# Altium footprint library Pcb_DCDC.PcbLib: 2 footprints
Each footprint in its own frame and in the unit in brackets; x right, y up, seen from the top. Pads: shape width x height; smd on the part's side, far side on the other; paste and mask are expansions set on the pad; w line width, h text height; cw(c..) or ccw(c..) is an arc to the next point about the centre after c.
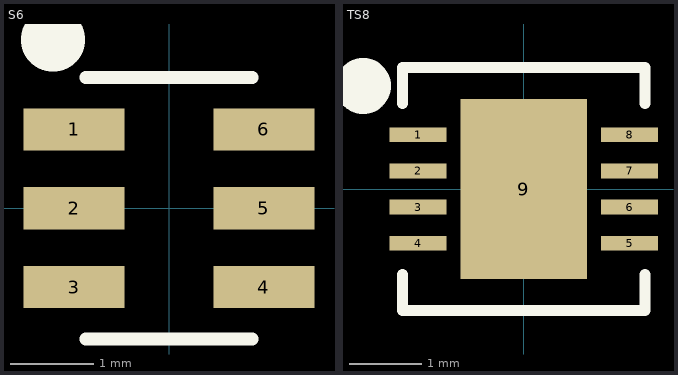
[diagram p0: the footprints below, top view; thin cyan lines are the x and y axes]

## S6 [mil]
pads (6):
  rect 48x20 smd paste+0 mask+0: 1(-45,37.4) 2(-45,0) 3(-45,-37.4) 4(45,-37.4) 5(45,0) 6(45,37.4)
Top Overlay:
  circle w30: c-55,80 r0.25
  lines w6: -39.5,-62 39.5,-62 ; -39.5,62 39.5,62

## TS8 [mil]
pads (9):
  rect 31x8 smd paste+0 mask+0: 1(-57.5,29.53) 2(-57.5,9.84) 3(-57.5,-9.84) 4(-57.5,-29.53) 5(57.5,-29.53) 6(57.5,-9.84) 7(57.5,9.84) 8(57.5,29.53)
  rect 69x98 smd paste-48.5 mask+0: 9(0,0)
Top Overlay:
  lines w6: -66,-46.63 -66,-66 66,-66 66,-46.63 ; -66,46.63 -66,66 66,66 66,46.63
  lines w25: -85,55 cw(c-87.5,56.04) -84.82,55.67
Top Paste:
  region: 34.5,49 -34.5,49 -34.5,-49 34.5,-49